# Altium schematic symbol library SN74LVC1G3157DRLR.SchLib: 1 symbol
Pins are listed as number, name and electrical type; pins without a type are passive.

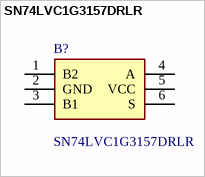
[diagram p0: symbol SN74LVC1G3157DRLR]

## SN74LVC1G3157DRLR
designator B?
Single-Pole, Double-Throw Analog Switch; Manufacturer_Name: Texas Instruments; Geometry.Height: 0.6mm; Mouser Part Number: 595-SN74LVC1G3157DRL; Mouser Price/Stock: https://www.mouser.co.uk/ProductDetail/Texas-Instruments/SN74LVC1G3157DRLR?qs=PVVDbbWpW3LmfSj83Os0NA%3D%3D; Manufacturer_Part_Number: SN74LVC1G3157DRLR; Datasheet Link: http://www.ti.com/lit/gpn/sn74lvc1g3157
footprint SOTFL50P160X60-6N
pins: 1 B2, 2 GND, 3 B1, 4 A, 5 VCC, 6 S